# Altium schematic symbol library WR-SMB.SchLib: 8 symbols
Pins are listed as number, name and electrical type; pins without a type are passive.

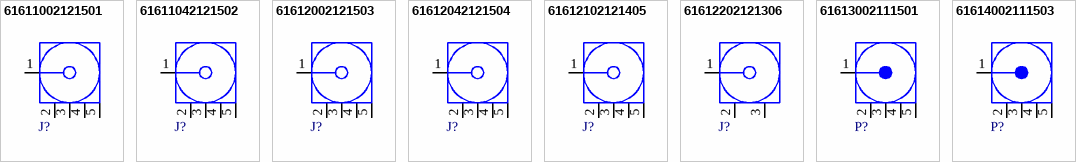
[diagram p0: symbols 61611002121501 to 61614002111503]

## 61611002121501
designator J?  (value not drawn)
WR-SMB Connector, PCB THT Jack, Right Angle, DC~4GHz, 50Ω; Manufacturer: Wurth Elektronik; Center Contact Diameter: 0.96mm; Connector Type: SMB; Interface Type: MIL-STD-348; ComponentLink1Description: Website Link; ComponentLink1URL: https://www.we-online.com/redexpert/article/61611002121501?ad; ComponentLink2Description: Datasheet Link; ComponentLink2URL: https://www.we-online.com/redexpert/spec/61611002121501?ad; Manufacturer Part Number: 61611002121501; Category: Coaxial Connectors; Match Code: WR-SMB; Mount: Through Hole; Operating Temperature Max: 165°C; Operating Temperature Min: -65°C; Packaging: Tray; Frequency Range: DC~4GHz; Gender: Jack; Impedance: 50Ω; Orientation: Right Angle
footprint 61611002121501
pins: 1 Signal "Signal Pin", 2 GND, 3 GND, 4 GND, 5 GND

## 61611042121502
designator J?  (value not drawn)
WR-SMB Connector, PCB THT Jack, Right Angle, DC~4GHz, 50Ω; Manufacturer: Wurth Elektronik; Center Contact Diameter: 0.96mm; Connector Type: SMB; Interface Type: MIL-STD-348; ComponentLink1Description: Website Link; ComponentLink1URL: https://www.we-online.com/redexpert/article/61611042121502?ad; ComponentLink2Description: Datasheet Link; ComponentLink2URL: https://www.we-online.com/redexpert/spec/61611042121502?ad; Manufacturer Part Number: 61611042121502; Category: Coaxial Connectors; Match Code: WR-SMB; Mount: Through Hole; Operating Temperature Max: 165°C; Operating Temperature Min: -65°C; Packaging: Tray; Frequency Range: DC~4GHz; Gender: Jack; Impedance: 50Ω; Orientation: Right Angle
footprint 61611042121502
pins: 1 Signal "Signal Pin", 2 GND, 3 GND, 4 GND, 5 GND

## 61612002121503
designator J?  (value not drawn)
WR-SMB Connector, PCB THT Jack, Straight, DC~4GHz, 50Ω; Manufacturer: Wurth Elektronik; Center Contact Diameter: 0.96mm; Connector Type: SMB; Interface Type: MIL-STD-348; ComponentLink1Description: Website Link; ComponentLink1URL: https://www.we-online.com/redexpert/article/61612002121503?ad; ComponentLink2Description: Datasheet Link; ComponentLink2URL: https://www.we-online.com/redexpert/spec/61612002121503?ad; Manufacturer Part Number: 61612002121503; Category: Coaxial Connectors; Match Code: WR-SMB; Mount: Through Hole; Operating Temperature Max: 165°C; Operating Temperature Min: -65°C; Packaging: Tray; Frequency Range: DC~4GHz; Gender: Jack; Impedance: 50Ω; Orientation: Straight
footprint 61612002121503
pins: 1 Signal "Signal Pin", 2 GND, 3 GND, 4 GND, 5 GND

## 61612042121504
designator J?  (value not drawn)
WR-SMB Connector, PCB THT Jack, Straight, DC~4GHz, 50Ω; Manufacturer: Wurth Elektronik; Center Contact Diameter: 0.96mm; Connector Type: SMB; Interface Type: MIL-STD-348; ComponentLink1Description: Website Link; ComponentLink1URL: https://www.we-online.com/redexpert/article/61612042121504?ad; ComponentLink2Description: Datasheet Link; ComponentLink2URL: https://www.we-online.com/redexpert/spec/61612042121504?ad; Manufacturer Part Number: 61612042121504; Category: Coaxial Connectors; Match Code: WR-SMB; Mount: Through Hole; Operating Temperature Max: 165°C; Operating Temperature Min: -65°C; Packaging: Tray; Frequency Range: DC~4GHz; Gender: Jack; Impedance: 50Ω; Orientation: Straight
footprint 61612042121504
pins: 1 Signal "Signal Pin", 2 GND, 3 GND, 4 GND, 5 GND

## 61612102121405
designator J?  (value not drawn)
WR-SMB Connector, PCB SMT Jack, Straight, DC~4GHz, 50Ω; Manufacturer: Wurth Elektronik; Center Contact Diameter: 0.96mm; Connector Type: SMB; Interface Type: MIL-STD-348; ComponentLink1Description: Website Link; ComponentLink1URL: https://www.we-online.com/redexpert/article/61612102121405?ad; ComponentLink2Description: Datasheet Link; ComponentLink2URL: https://www.we-online.com/redexpert/spec/61612102121405?ad; Manufacturer Part Number: 61612102121405; Category: Coaxial Connectors; Match Code: WR-SMB; Mount: Surface Mount; Operating Temperature Max: 165°C; Operating Temperature Min: -65°C; Packaging: Tape and Reel; Frequency Range: DC~4GHz; Gender: Jack; Impedance: 50Ω; Orientation: Straight
footprint 61612102121405
pins: 1 Signal "Signal Pin", 2 GND, 3 GND, 4 GND, 5 GND

## 61612202121306
designator J?  (value not drawn)
WR-SMB Connector, PCB End Launch Jack, Straight, DC~4GHz, 50Ω; Manufacturer: Wurth Elektronik; Center Contact Diameter: 0.5mm; Connector Type: SMB; Interface Type: MIL-STD-348; ComponentLink1Description: Website Link; ComponentLink1URL: https://www.we-online.com/redexpert/article/61612202121306?ad; ComponentLink2Description: Datasheet Link; ComponentLink2URL: https://www.we-online.com/redexpert/spec/61612202121306?ad; Manufacturer Part Number: 61612202121306; Category: Coaxial Connectors; Match Code: WR-SMB; Mount: End Launch; Operating Temperature Max: 165°C; Operating Temperature Min: -65°C; Packaging: Tape and Reel; Frequency Range: DC~4GHz; Gender: Jack; Impedance: 50Ω; Orientation: Straight
footprint 61612202121306
pins: 1 Signal "Signal Pin", 2 GND, 3 GND

## 61613002111501
designator P?  (value not drawn)
WR-SMB Connector, PCB THT Plug, Right Angle, DC~4GHz, 50Ω; Manufacturer: Wurth Elektronik; Center Contact Diameter: 0.96mm; Connector Type: SMB; Interface Type: MIL-STD-348; ComponentLink1Description: Website Link; ComponentLink1URL: https://www.we-online.com/redexpert/article/61613002111501?ad; ComponentLink2Description: Datasheet Link; ComponentLink2URL: https://www.we-online.com/redexpert/spec/61613002111501?ad; Manufacturer Part Number: 61613002111501; Category: Coaxial Connectors; Match Code: WR-SMB; Mount: Through Hole; Operating Temperature Max: 165°C; Operating Temperature Min: -65°C; Packaging: Tray; Frequency Range: DC~4GHz; Gender: Plug; Impedance: 50Ω; Orientation: Right Angle
footprint 61613002111501
pins: 1 Signal "Signal Pin", 2 GND, 3 GND, 4 GND, 5 GND

## 61614002111503
designator P?  (value not drawn)
WR-SMB Connector, PCB THT Plug, Straight, DC~4GHz, 50Ω; Manufacturer: Wurth Elektronik; Center Contact Diameter: 0.96mm; Connector Type: SMB; Interface Type: MIL-STD-348; ComponentLink1Description: Website Link; ComponentLink1URL: https://www.we-online.com/redexpert/article/61614002111503?ad; ComponentLink2Description: Datasheet Link; ComponentLink2URL: https://www.we-online.com/redexpert/spec/61614002111503?ad; Manufacturer Part Number: 61614002111503; Category: Coaxial Connectors; Match Code: WR-SMB; Mount: Through Hole; Operating Temperature Max: 165°C; Operating Temperature Min: -65°C; Packaging: Tray; Frequency Range: DC~4GHz; Gender: Plug; Impedance: 50Ω; Orientation: Straight
footprint 61614002111503
pins: 1 Signal "Signal Pin", 2 GND, 3 GND, 4 GND, 5 GND